# Altium footprint library con-ml.PCBLIB: 41 footprints (part 2 of 3)
Each footprint in its own frame and in the unit in brackets; x right, y up, seen from the top. Pads: shape width x height; smd on the part's side, far side on the other; paste and mask are expansions set on the pad; w line width, h text height; cw(c..) or ccw(c..) is an arc to the next point about the centre after c.
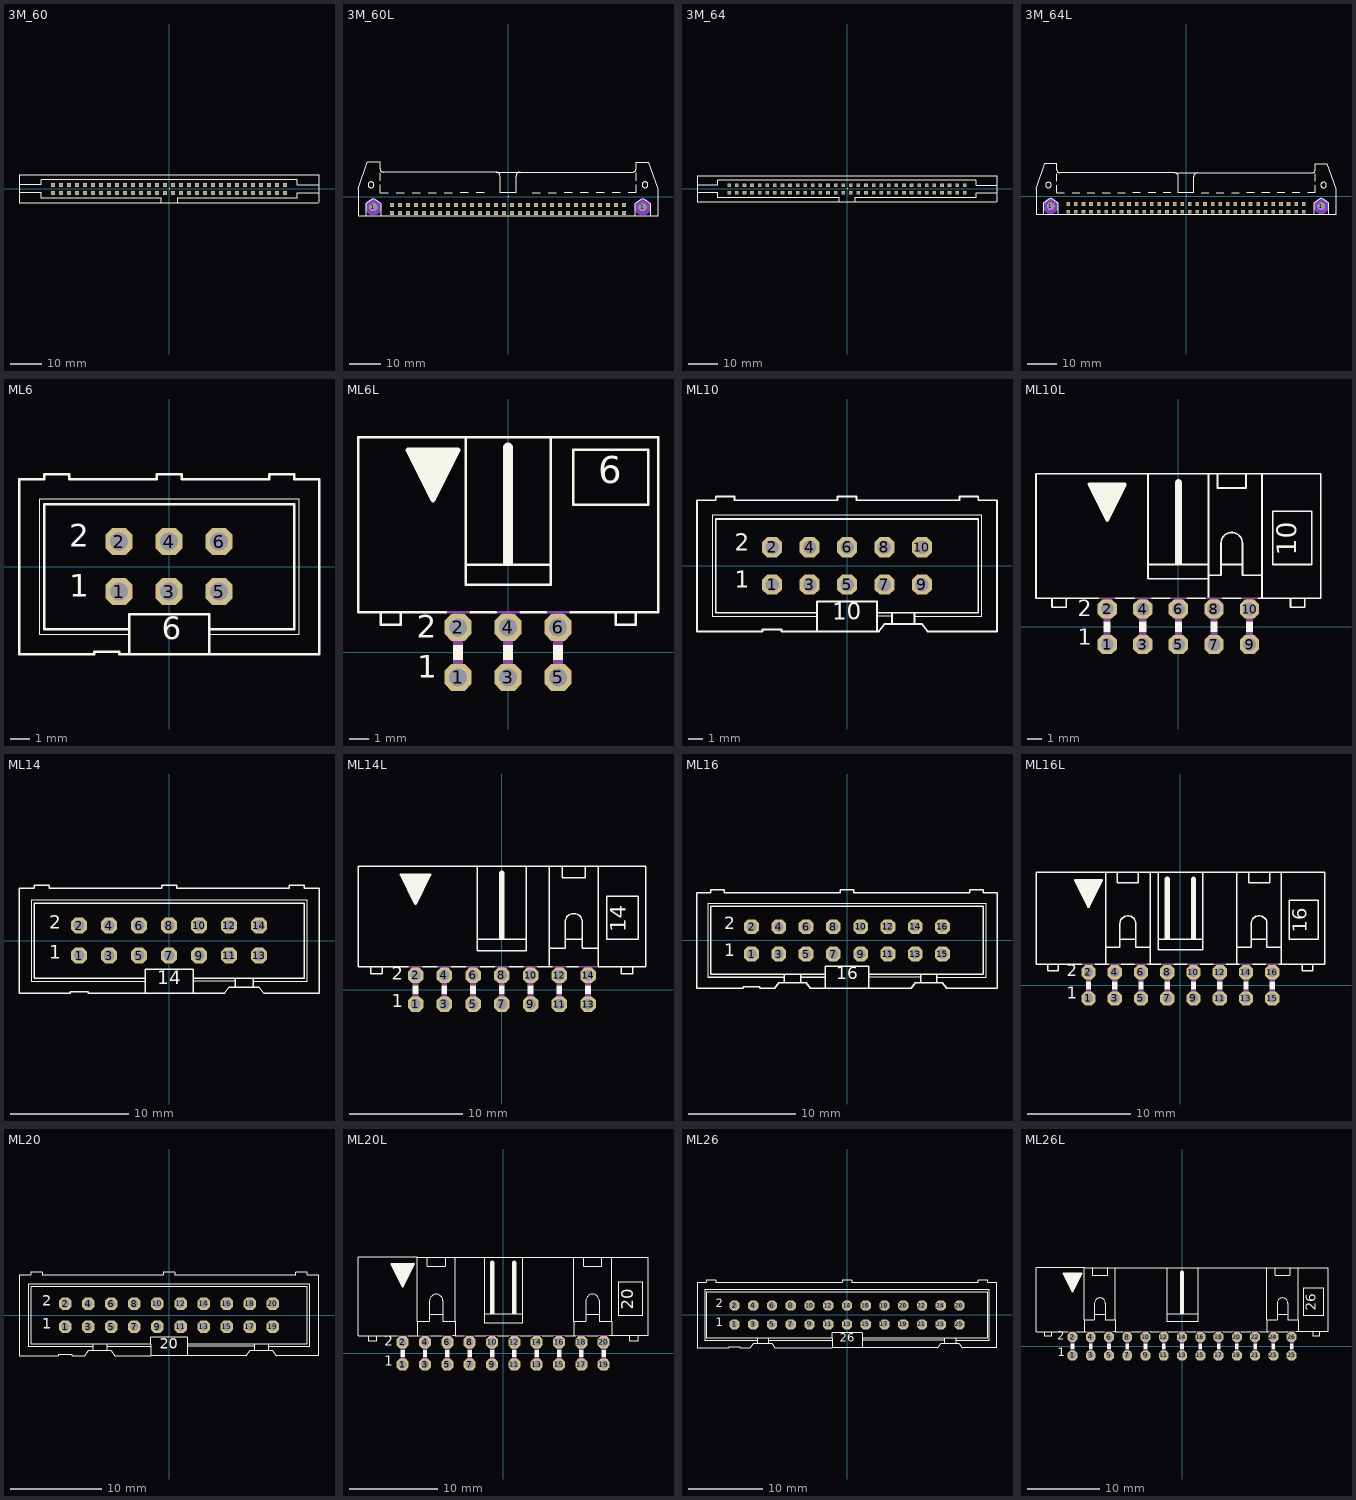
[diagram p1: the footprints below, top view; thin cyan lines are the x and y axes]

## 3M_60 [mil]
pads (60):
  rect 48x48 hole 32: 1(-1450,-50) 2(-1450,50) 3(-1350,-50) 4(-1350,50) 5(-1250,-50) 6(-1250,50) 7(-1150,-50) 8(-1150,50) 9(-1050,-50) 10(-1050,50) 11(-950,-50) 12(-950,50) 13(-850,-50) 14(-850,50) 15(-750,-50) 16(-750,50) 17(-650,-50) 18(-650,50) 19(-550,-50) 20(-550,50) 21(-450,-50) 22(-450,50) 23(-350,-50) 24(-350,50) 25(-250,-50) 26(-250,50) 27(-150,-50) 28(-150,50) 29(-50,-50) 30(-50,50) 31(50,-50) 32(50,50) 33(150,-50) 34(150,50) 35(250,-50) 36(250,50) 37(350,-50) 38(350,50) 39(450,-50) 40(450,50) 41(550,-50) 42(550,50) 43(650,-50) 44(650,50) 45(750,-50) 46(750,50) 47(850,-50) 48(850,50) 49(950,-50) 50(950,50) 51(1050,-50) 52(1050,50) 53(1150,-50) 54(1150,50) 55(1250,-50) 56(1250,50) 57(1350,-50) 58(1350,50) 59(1450,-50) 60(1450,50)
Top Overlay:
  region: 0,0 10,0 10,10 0,10
  lines w12: -1875,-169.29 -100,-169.29 -100,-120 ; -1875,-167 -1875,169.29 1875,169.29 1875,-167 ; -1870,-50 -1600,-50 -1600,-118.11 -100,-118.11 ; -1870,50 -1600,50 -1600,118.11 1595,118.11 ; -100,-170 100,-170 ; 100,-120 100,-169.29 1865,-169.29 ; 100,-118.11 1600,-118.11 1600,-50 1870,-50 ; 1600,118.11 1600,50 1870,50

## 3M_60L [mil]
pads (62):
  round 100 hole 100: 1(-1683,-129) 1(1683,-129)
  rect 48x48 hole 32: 1(-1450,-200) 2(-1450,-100) 3(-1350,-200) 4(-1350,-100) 5(-1250,-200) 6(-1250,-100) 7(-1150,-200) 8(-1150,-100) 9(-1050,-200) 10(-1050,-100) 11(-950,-200) 12(-950,-100) 13(-850,-200) 14(-850,-100) 15(-750,-200) 16(-750,-100) 17(-650,-200) 18(-650,-100) 19(-550,-200) 20(-550,-100) 21(-450,-200) 22(-450,-100) 23(-350,-200) 24(-350,-100) 25(-250,-200) 26(-250,-100) 27(-150,-200) 28(-150,-100) 29(-50,-200) 30(-50,-100) 31(50,-200) 32(50,-100) 33(150,-200) 34(150,-100) 35(250,-200) 36(250,-100) 37(350,-200) 38(350,-100) 39(450,-200) 40(450,-100) 41(550,-200) 42(550,-100) 43(650,-200) 44(650,-100) 45(750,-200) 46(750,-100) 47(850,-200) 48(850,-100) 49(950,-200) 50(950,-100) 51(1050,-200) 52(1050,-100) 53(1150,-200) 54(1150,-100) 55(1250,-200) 56(1250,-100) 57(1350,-200) 58(1350,-100) 59(1450,-200) 60(1450,-100)
Bottom Layer keep-out:
  circle w50: c-1683,-129 r76
  circle w50: c1683,-129 r76
Top Overlay:
  circle w5: c-1712,150 r37
  circle w5: c1712,150 r37
  region: 0,0 10,0 10,10 0,10
  lines w5: -1600,150 -1600,50 -1500,50 ; -1600,200 -1600,300 ; -1400,50 -1300,50 ; -1200,50 -1100,50 ; -1000,50 -900,50 ; -800,50 -700,50 ; -600,50 -500,50 ; -400,50 -300,50 ; 300,50 400,50 ; 500,50 600,50 ; 700,50 800,50 ; 900,50 1000,50 ; 1100,50 1200,50 ; 1300,50 1400,50 ; 1500,50 1600,50 1600,150 ; 1600,200 1600,300
  lines w12: -100,260 ccw(c-150,260) -150,310 ; -100,263 -100,50 100,50 100,263 ; 100,260 cw(c150,260) 150,310 ; -1775,-237 -1875,-237 -1875,100 -1762,433 -1600,433 -1600,350 ccw(c-1560,350) -1560,310 -150,310 ; -1775,-237 -1775,-80 -1683,-18 -1591,-80 -1591,-237 ; -1775,-237 -1591,-237 ; -1591,-237 1591,-237 ; -150,310 1560,310 ccw(c1560,350) 1600,350 1600,433 1762,433 1875,100 1875,-237 1775,-237 ; 1591,-237 1591,-81 1683,-18 1775,-81 1775,-237 ; 1591,-237 1775,-237

## 3M_64 [mil]
pads (64):
  rect 48x48 hole 32: 1(-1550,-50) 2(-1550,50) 3(-1450,-50) 4(-1450,50) 5(-1350,-50) 6(-1350,50) 7(-1250,-50) 8(-1250,50) 9(-1150,-50) 10(-1150,50) 11(-1050,-50) 12(-1050,50) 13(-950,-50) 14(-950,50) 15(-850,-50) 16(-850,50) 17(-750,-50) 18(-750,50) 19(-650,-50) 20(-650,50) 21(-550,-50) 22(-550,50) 23(-450,-50) 24(-450,50) 25(-350,-50) 26(-350,50) 27(-250,-50) 28(-250,50) 29(-150,-50) 30(-150,50) 31(-50,-50) 32(-50,50) 33(50,-50) 34(50,50) 35(150,-50) 36(150,50) 37(250,-50) 38(250,50) 39(350,-50) 40(350,50) 41(450,-50) 42(450,50) 43(550,-50) 44(550,50) 45(650,-50) 46(650,50) 47(750,-50) 48(750,50) 49(850,-50) 50(850,50) 51(950,-50) 52(950,50) 53(1050,-50) 54(1050,50) 55(1150,-50) 56(1150,50) 57(1250,-50) 58(1250,50) 59(1350,-50) 60(1350,50) 61(1450,-50) 62(1450,50) 63(1550,-50) 64(1550,50)
Top Overlay:
  region: 0,0 10,0 10,10 0,10
  lines w12: -1975,-169.29 -100,-169.29 -100,-120 ; -1975,-167 -1975,169.29 1975,169.29 1975,-167 ; -1970,-50 -1700,-50 -1700,-118.11 -100,-118.11 ; -1970,50 -1700,50 -1700,118.11 1695,118.11 ; -100,-170 100,-170 ; 100,-120 100,-169.29 1965,-169.29 ; 100,-118.11 1700,-118.11 1700,-50 1970,-50 ; 1700,118.11 1700,50 1970,50

## 3M_64L [mil]
pads (66):
  round 100 hole 100: 1(-1783,-129) 1(1783,-129)
  rect 48x48 hole 32: 1(-1550,-200) 2(-1550,-100) 3(-1450,-200) 4(-1450,-100) 5(-1350,-200) 6(-1350,-100) 7(-1250,-200) 8(-1250,-100) 9(-1150,-200) 10(-1150,-100) 11(-1050,-200) 12(-1050,-100) 13(-950,-200) 14(-950,-100) 15(-850,-200) 16(-850,-100) 17(-750,-200) 18(-750,-100) 19(-650,-200) 20(-650,-100) 21(-550,-200) 22(-550,-100) 23(-450,-200) 24(-450,-100) 25(-350,-200) 26(-350,-100) 27(-250,-200) 28(-250,-100) 29(-150,-200) 30(-150,-100) 31(-50,-200) 32(-50,-100) 33(50,-200) 34(50,-100) 35(150,-200) 36(150,-100) 37(250,-200) 38(250,-100) 39(350,-200) 40(350,-100) 41(450,-200) 42(450,-100) 43(550,-200) 44(550,-100) 45(650,-200) 46(650,-100) 47(750,-200) 48(750,-100) 49(850,-200) 50(850,-100) 51(950,-200) 52(950,-100) 53(1050,-200) 54(1050,-100) 55(1150,-200) 56(1150,-100) 57(1250,-200) 58(1250,-100) 59(1350,-200) 60(1350,-100) 61(1450,-200) 62(1450,-100) 63(1550,-200) 64(1550,-100)
Bottom Layer keep-out:
  circle w50: c-1783,-129 r76
  circle w50: c1783,-129 r76
Top Overlay:
  circle w5: c-1812,150 r37
  circle w5: c1812,150 r37
  region: 0,0 10,0 10,10 0,10
  lines w5: -1700,150 -1700,50 -1600,50 ; -1700,200 -1700,300 ; -1500,50 -1400,50 ; -1300,50 -1200,50 ; -1100,50 -1000,50 ; -900,50 -800,50 ; -700,50 -600,50 ; -500,50 -400,50 ; -300,50 -200,50 ; 200,50 300,50 ; 400,50 500,50 ; 600,50 700,50 ; 800,50 900,50 ; 1000,50 1100,50 ; 1200,50 1300,50 ; 1400,50 1500,50 ; 1600,50 1700,50 1700,150 ; 1700,200 1700,300
  lines w12: -100,260 ccw(c-150,260) -150,310 ; -100,263 -100,50 100,50 100,263 ; 100,260 cw(c150,260) 150,310 ; -1875,-237 -1975,-237 -1975,100 -1862,433 -1700,433 -1700,350 ccw(c-1660,350) -1660,310 -150,310 ; -1875,-237 -1875,-80 -1783,-18 -1691,-80 -1691,-237 ; -1875,-237 -1691,-237 ; -1691,-237 1691,-237 ; -150,310 1660,310 ccw(c1660,350) 1700,350 1700,433 1862,433 1975,100 1975,-237 1875,-237 ; 1691,-237 1691,-81 1783,-18 1875,-81 1875,-237 ; 1691,-237 1875,-237

## ML6 [mil]
pads (6):
  oct 54x54 hole 36: 1(-100,-50) 2(-100,50) 3(0,-50) 4(0,50) 5(100,-50) 6(100,50)
Top Overlay:
  lines w2: -80,-135 -260,-135 -260,135 260,135 260,-135 80,-135
  lines w5: -80,-175 80,-175 ; -80,-175 -80,-135 -80,-125 ; -80,-175 -100,-175 -100,-170 -150,-170 -150,-175 -300,-175 -300,175 -250,175 -250,185 -200,185 -200,175 -25,175 -25,185 25,185 25,175 200,175 200,185 250,185 250,175 300,175 300,-175 80,-175 ; -80,-125 -80,-95 80,-95 80,-125 ; -80,-125 -250,-125 -250,125 250,125 250,-125 80,-125 ; 80,-175 80,-135 80,-125
  text "1" at -200,-75 h77.5
  text "2" at -200,25 h77.5
  text "6" at -15,-160 h77.5
Mechanical 16:
  rectangle: -10,40 10,60
  rectangle: -110,40 -90,60
  rectangle: 90,40 110,60
  rectangle: -10,-60 10,-40
  rectangle: -110,-60 -90,-40
  rectangle: 90,-60 110,-40

## ML6L [mil]
pads (6):
  oct 54x54 hole 36: 1(-100,-50) 2(-100,50) 3(0,-50) 4(0,50) 5(100,-50) 6(100,50)
Top Overlay:
  rectangle: -10,175 10,405
  rectangle: -195,385 -105,405
  rectangle: -185,365 -115,385
  rectangle: -175,345 -125,365
  rectangle: -165,325 -135,345
  rectangle: -155,315 -145,325
  rectangle: -110,-15 -90,15
  rectangle: -10,-15 10,15
  rectangle: 90,-15 110,15
  lines w5: -125,80 -215,80 ; -75,80 -25,80 ; 25,80 75,80 ; 125,80 215,80 ; -255,80 -300,80 -300,430 -85,430 ; -255,80 -255,55 -215,55 -215,80 ; -255,80 -215,80 ; -85,175 -85,430 ; -85,175 85,175 ; -85,175 -85,135 85,135 85,175 ; -85,430 85,430 ; 85,175 85,430 ; 85,430 300,430 300,80 255,80 ; 215,80 215,55 255,55 255,80 ; 215,80 255,80 ; 130,295 130,405 280,405 280,295 130,295
  lines w10: -200,405 -100,405 -150,305 -200,405
  lines w20: 0,400 0,410
  text "1" at -182,-66 h77.5
  text "2" at -183,14 h77.5
  text "6" at 180,320 h93
Mechanical 16:
  rectangle: -110,15 -90,80
  rectangle: -110,-60 -90,-15
  rectangle: -10,15 10,80
  rectangle: -10,-60 10,-15
  rectangle: 90,15 110,80
  rectangle: 90,-60 110,-15
  lines w5: -125,80 -75,80 ; -25,80 25,80 ; 75,80 125,80

## ML10 [mil]
pads (10):
  oct 54x54 hole 36: 1(-200,-50) 2(-200,50) 3(-100,-50) 4(-100,50) 5(0,-50) 6(0,50) 7(100,-50) 8(100,50) 9(200,-50) 10(200,50)
Top Overlay:
  lines w2: -80,-135 -360,-135 -360,135 360,135 360,-135 180,-135 ; 80,-135 120,-135
  lines w5: -80,-175 80,-175 ; -80,-175 -80,-135 -80,-125 ; -80,-175 -175,-175 -175,-170 -225,-170 -225,-175 -400,-175 -400,175 -350,175 -350,185 -300,185 -300,175 -25,175 -25,185 25,185 25,175 300,175 300,185 350,185 350,175 400,175 400,-175 215,-175 200,-155 180,-155 ; -80,-125 -80,-95 80,-95 80,-125 ; -80,-125 -350,-125 -350,125 350,125 350,-125 180,-125 ; 80,-175 85,-175 100,-155 120,-155 ; 80,-175 80,-135 80,-125 ; 80,-125 120,-125 ; 120,-155 120,-135 120,-125 ; 120,-155 180,-155 ; 120,-125 180,-125 ; 180,-155 180,-135 180,-125
  text "10" at -40,-160 h77.5
  text "1" at -300,-75 h77.5
  text "2" at -300,25 h77.5
Mechanical 16:
  rectangle: -110,40 -90,60
  rectangle: -210,40 -190,60
  rectangle: -10,40 10,60
  rectangle: 190,40 210,60
  rectangle: 90,40 110,60
  rectangle: -110,-60 -90,-40
  rectangle: -210,-60 -190,-40
  rectangle: -10,-60 10,-40
  rectangle: 190,-60 210,-40
  rectangle: 90,-60 110,-40

## ML10L [mil]
pads (10):
  oct 54x54 hole 36: 1(-200,-50) 2(-200,50) 3(-100,-50) 4(-100,50) 5(0,-50) 6(0,50) 7(100,-50) 8(100,50) 9(200,-50) 10(200,50)
Top Overlay:
  rectangle: -10,175 10,405
  rectangle: -245,380 -155,400
  rectangle: -235,360 -165,380
  rectangle: -225,340 -175,360
  rectangle: -215,320 -185,340
  rectangle: -205,310 -195,320
  rectangle: -210,-15 -190,15
  rectangle: -110,-15 -90,15
  rectangle: -10,-15 10,15
  rectangle: 90,-15 110,15
  rectangle: 190,-15 210,15
  lines w5: -225,80 -315,80 ; -175,80 -125,80 ; -75,80 -25,80 ; 25,80 75,80 ; 85,85 85,135 ; 110,430 110,390 190,390 190,430 ; 125,80 175,80 ; 225,80 235,80 ; 235,430 235,145 ; -355,80 -400,80 -400,430 -85,430 ; -355,80 -355,55 -315,55 -315,80 ; -355,80 -315,80 ; -85,175 -85,430 ; -85,175 85,175 ; -85,175 -85,135 85,135 ; -85,430 85,430 ; 85,135 85,145 ; 85,145 120,145 120,175 ; 85,145 85,175 ; 85,175 85,430 ; 85,430 400,430 400,80 355,80 ; 120,175 120,235 cw(c150,235) 180,235 180,175 ; 120,175 180,175 ; 180,175 180,145 235,145 ; 235,80 235,145 ; 235,80 315,80 ; 315,80 315,55 355,55 355,80 ; 315,80 355,80 ; 265,175 375,175 375,325 265,325 265,175
  lines w10: -250,400 -150,400 -200,300 -250,400
  lines w20: 0,395 0,405
  text "1" at -282,-66 h77.5
  text "2" at -283,14 h77.5
  text "10" at 350,200 h93
Mechanical 16:
  rectangle: -210,15 -190,80
  rectangle: -210,-60 -190,-15
  rectangle: -110,15 -90,80
  rectangle: -110,-60 -90,-15
  rectangle: -10,15 10,80
  rectangle: -10,-60 10,-15
  rectangle: 90,15 110,80
  rectangle: 90,-60 110,-15
  rectangle: 190,15 210,80
  rectangle: 190,-60 210,-15
  lines w5: -225,80 -175,80 ; -125,80 -75,80 ; -25,80 25,80 ; 75,80 85,80 ; 85,85 85,80 ; 125,80 85,80 ; 175,80 225,80

## ML14 [mil]
pads (14):
  oct 54x54 hole 36: 1(-300,-50) 2(-300,50) 3(-200,-50) 4(-200,50) 5(-100,-50) 6(-100,50) 7(0,-50) 8(0,50) 9(100,-50) 10(100,50) 11(200,-50) 12(200,50) 13(300,-50) 14(300,50)
Top Overlay:
  lines w2: -80,-135 -460,-135 -460,135 460,135 460,-135 280,-135 ; 80,-135 220,-135
  lines w5: -80,-175 80,-175 ; -80,-175 -80,-135 -80,-125 ; -80,-175 -270,-175 -270,-170 -330,-170 -330,-175 -500,-175 -500,175 -450,175 -450,185 -400,185 -400,175 -25,175 -25,185 25,185 25,175 400,175 400,185 450,185 450,175 500,175 500,-175 315,-175 300,-155 280,-155 ; -80,-125 -80,-95 80,-95 80,-125 ; -80,-125 -450,-125 -450,125 450,125 450,-125 280,-125 ; 80,-175 185,-175 200,-155 220,-155 ; 80,-175 80,-135 80,-125 ; 80,-125 220,-125 ; 220,-155 220,-135 220,-125 ; 220,-155 280,-155 ; 220,-125 280,-125 ; 280,-155 280,-135 280,-125
  text "14" at -40,-160 h77.5
  text "1" at -400,-75 h77.5
  text "2" at -400,25 h77.5
Mechanical 16:
  rectangle: 290,40 310,60
  rectangle: 190,40 210,60
  rectangle: 190,-60 210,-40
  rectangle: 290,-60 310,-40
  rectangle: -210,40 -190,60
  rectangle: -310,40 -290,60
  rectangle: -110,40 -90,60
  rectangle: 90,40 110,60
  rectangle: -10,40 10,60
  rectangle: -210,-60 -190,-40
  rectangle: -310,-60 -290,-40
  rectangle: -110,-60 -90,-40
  rectangle: 90,-60 110,-40
  rectangle: -10,-60 10,-40

## ML14L [mil]
pads (14):
  oct 54x54 hole 36: 1(-300,-50) 2(-300,50) 3(-200,-50) 4(-200,50) 5(-100,-50) 6(-100,50) 7(0,-50) 8(0,50) 9(100,-50) 10(100,50) 11(200,-50) 12(200,50) 13(300,-50) 14(300,50)
Top Overlay:
  rectangle: -10,175 10,405
  rectangle: -345,380 -255,400
  rectangle: -335,360 -265,380
  rectangle: -325,340 -275,360
  rectangle: -315,320 -285,340
  rectangle: -305,310 -295,320
  rectangle: -310,-15 -290,15
  rectangle: -210,-15 -190,15
  rectangle: -110,-15 -90,15
  rectangle: -10,-15 10,15
  rectangle: 90,-15 110,15
  rectangle: 190,-15 210,15
  rectangle: 290,-15 310,15
  lines w5: -325,80 -415,80 ; -275,80 -225,80 ; -175,80 -125,80 ; -75,80 -25,80 ; 25,80 75,80 ; 125,80 165,80 ; 175,80 165,80 ; 210,430 210,390 290,390 290,430 ; 225,80 265,80 ; 335,430 335,145 ; -455,80 -500,80 -500,430 -85,430 ; -455,80 -415,80 ; -455,80 -455,55 -415,55 -415,80 ; -85,175 -85,430 ; -85,175 85,175 ; -85,175 -85,135 85,135 85,175 ; -85,430 85,430 ; 85,175 85,430 ; 85,430 165,430 ; 165,80 165,145 ; 165,145 220,145 220,175 ; 165,145 165,430 ; 165,430 500,430 500,80 455,80 ; 220,175 220,235 cw(c250,235) 280,235 280,175 ; 220,175 280,175 ; 280,175 280,145 335,145 ; 335,145 335,80 415,80 ; 415,80 455,80 ; 415,80 415,55 455,55 455,80 ; 365,175 475,175 475,325 365,325 365,175
  lines w10: -350,400 -250,400 -300,300 -350,400
  lines w20: 0,395 0,405
  text "1" at -382,-76 h77.5
  text "2" at -383,19 h77.5
  text "14" at 450,200 h93
Mechanical 16:
  rectangle: -310,15 -290,80
  rectangle: -310,-60 -290,-15
  rectangle: -210,15 -190,80
  rectangle: -210,-60 -190,-15
  rectangle: -110,15 -90,80
  rectangle: -110,-60 -90,-15
  rectangle: -10,15 10,80
  rectangle: -10,-60 10,-15
  rectangle: 90,15 110,80
  rectangle: 90,-60 110,-15
  rectangle: 190,15 210,80
  rectangle: 190,-60 210,-15
  rectangle: 290,15 310,80
  rectangle: 290,-60 310,-15
  lines w5: -325,80 -275,80 ; -225,80 -175,80 ; -125,80 -75,80 ; -25,80 25,80 ; 75,80 125,80 ; 175,80 225,80 ; 265,80 335,80

## ML16 [mil]
pads (16):
  oct 54x54 hole 36: 1(-350,-50) 2(-350,50) 3(-250,-50) 4(-250,50) 5(-150,-50) 6(-150,50) 7(-50,-50) 8(-50,50) 9(50,-50) 10(50,50) 11(150,-50) 12(150,50) 13(250,-50) 14(250,50) 15(350,-50) 16(350,50)
Top Overlay:
  lines w2: -510,-135 -510,135 510,135 510,-135 330,-135 ; 80,-135 270,-135
  lines w5: -510,-135 -230,-135 ; -230,-155 -230,-135 ; -230,-155 -170,-155 ; -230,-155 -250,-155 -265,-175 -320,-175 -320,-170 -380,-170 -380,-175 -550,-175 -550,175 -500,175 -500,185 -450,185 -450,175 -25,175 -25,185 25,185 25,175 450,175 450,185 500,185 500,175 550,175 550,-175 365,-175 350,-155 330,-155 ; -230,-135 -230,-125 ; -230,-125 -500,-125 -500,125 500,125 500,-125 330,-125 ; -230,-125 -170,-125 ; -170,-155 -170,-135 ; -170,-155 -150,-155 -135,-175 -80,-175 ; -170,-135 -80,-135 ; -170,-135 -170,-125 ; -170,-125 -80,-125 ; -80,-175 80,-175 ; -80,-175 -80,-135 ; -80,-135 -80,-125 ; -80,-125 -80,-95 80,-95 80,-125 ; 80,-175 235,-175 250,-155 270,-155 ; 80,-175 80,-135 80,-125 ; 80,-125 270,-125 ; 270,-155 270,-135 270,-125 ; 270,-155 330,-155 ; 270,-125 330,-125 ; 330,-155 330,-135 330,-125
  text "16" at -40,-160 h77.5
  text "1" at -450,-75 h77.5
  text "2" at -450,25 h77.5
Mechanical 16:
  rectangle: 340,40 360,60
  rectangle: 340,-60 360,-40
  rectangle: 240,40 260,60
  rectangle: 140,40 160,60
  rectangle: 140,-60 160,-40
  rectangle: 240,-60 260,-40
  rectangle: -260,40 -240,60
  rectangle: -360,40 -340,60
  rectangle: -160,40 -140,60
  rectangle: 40,40 60,60
  rectangle: -60,40 -40,60
  rectangle: -260,-60 -240,-40
  rectangle: -360,-60 -340,-40
  rectangle: -160,-60 -140,-40
  rectangle: 40,-60 60,-40
  rectangle: -60,-60 -40,-40

## ML16L [mil]
pads (16):
  oct 54x54 hole 36: 1(-350,-50) 2(-350,50) 3(-250,-50) 4(-250,50) 5(-150,-50) 6(-150,50) 7(-50,-50) 8(-50,50) 9(50,-50) 10(50,50) 11(150,-50) 12(150,50) 13(250,-50) 14(250,50) 15(350,-50) 16(350,50)
Top Overlay:
  rectangle: 40,175 60,405
  rectangle: -395,380 -305,400
  rectangle: -385,360 -315,380
  rectangle: -375,340 -325,360
  rectangle: -365,320 -335,340
  rectangle: -355,310 -345,320
  rectangle: -60,175 -40,405
  rectangle: -360,-15 -340,15
  rectangle: -260,-15 -240,15
  rectangle: -160,-15 -140,15
  rectangle: -60,-15 -40,15
  rectangle: 40,-15 60,15
  rectangle: 140,-15 160,15
  rectangle: 240,-15 260,15
  rectangle: 340,-15 360,15
  lines w5: -375,80 -465,80 ; -325,80 -285,80 ; -275,80 -285,80 ; -225,80 -175,80 ; -125,80 -115,80 ; -75,80 -115,80 ; -25,80 25,80 ; 75,80 125,80 ; 175,80 215,80 ; 225,80 215,80 ; 260,430 260,390 340,390 340,430 ; 275,80 325,80 ; 375,80 385,80 ; 385,430 385,145 ; -505,80 -550,80 -550,430 -285,430 ; -505,80 -465,80 ; -505,80 -505,55 -465,55 -465,80 ; -285,80 -285,145 ; -285,145 -285,430 ; -285,145 -230,145 -230,175 ; -285,430 -240,430 ; -240,430 -240,390 -160,390 -160,430 ; -240,430 -160,430 ; -230,175 -170,175 ; -230,175 -230,235 cw(c-200,235) -170,235 -170,175 ; -170,175 -170,145 -115,145 ; -160,430 -115,430 ; -115,80 -115,145 ; -115,145 -115,430 ; -115,430 -85,430 ; -85,175 -85,430 ; -85,175 85,175 ; -85,175 -85,135 85,135 85,175 ; -85,430 85,430 ; 85,175 85,430 ; 85,430 215,430 ; 215,80 215,145 ; 215,145 270,145 270,175 ; 215,145 215,430 ; 215,430 550,430 550,80 505,80 ; 270,175 270,235 cw(c300,235) 330,235 330,175 ; 270,175 330,175 ; 330,175 330,145 385,145 ; 385,80 385,145 ; 385,80 465,80 ; 465,80 505,80 ; 465,80 465,55 505,55 505,80 ; 415,175 525,175 525,325 415,325 415,175
  lines w10: -400,400 -300,400 -350,300 -400,400
  lines w20: -50,395 -50,405 ; 50,395 50,405
  text "1" at -432,-66 h77.5
  text "2" at -433,19 h77.5
  text "16" at 500,200 h93
Mechanical 16:
  rectangle: -360,15 -340,80
  rectangle: -360,-60 -340,-15
  rectangle: -260,15 -240,80
  rectangle: -260,-60 -240,-15
  rectangle: -160,15 -140,80
  rectangle: -160,-60 -140,-15
  rectangle: -60,15 -40,80
  rectangle: -60,-60 -40,-15
  rectangle: 40,15 60,80
  rectangle: 40,-60 60,-15
  rectangle: 140,15 160,80
  rectangle: 140,-60 160,-15
  rectangle: 240,15 260,80
  rectangle: 240,-60 260,-15
  rectangle: 340,15 360,80
  rectangle: 340,-60 360,-15
  lines w5: -375,80 -325,80 ; -275,80 -225,80 ; -175,80 -125,80 ; -75,80 -25,80 ; 25,80 75,80 ; 125,80 175,80 ; 225,80 275,80 ; 325,80 375,80

## ML20 [mil]
pads (20):
  oct 54x54 hole 36: 1(-450,-50) 2(-450,50) 3(-350,-50) 4(-350,50) 5(-250,-50) 6(-250,50) 7(-150,-50) 8(-150,50) 9(-50,-50) 10(-50,50) 11(50,-50) 12(50,50) 13(150,-50) 14(150,50) 15(250,-50) 16(250,50) 17(350,-50) 18(350,50) 19(450,-50) 20(450,50)
Top Overlay:
  lines w2: -330,-135 -610,-135 -610,135 610,135 610,-135 430,-135 ; -270,-135 -80,-135 ; 80,-135 370,-135
  lines w5: -330,-155 -330,-135 -330,-125 ; -330,-155 -270,-155 ; -330,-155 -350,-155 -365,-175 -420,-175 -420,-170 -480,-170 -480,-175 -650,-175 -650,175 -600,175 -600,185 -550,185 -550,175 -25,175 -25,185 25,185 25,175 550,175 550,185 600,185 600,175 650,175 650,-175 465,-175 450,-155 430,-155 ; -330,-125 -600,-125 -600,125 600,125 600,-125 430,-125 ; -330,-125 -270,-125 ; -270,-155 -270,-135 -270,-125 ; -270,-155 -250,-155 -235,-175 -80,-175 ; -270,-125 -80,-125 ; -80,-175 80,-175 ; -80,-175 -80,-135 -80,-125 ; -80,-125 -80,-95 80,-95 80,-125 ; 80,-175 335,-175 350,-155 370,-155 ; 80,-175 80,-135 80,-125 ; 80,-125 370,-125 ; 370,-155 370,-135 370,-125 ; 370,-155 430,-155 ; 370,-125 430,-125 ; 430,-155 430,-135 430,-125
  text "1" at -550,-75 h77.5
  text "2" at -550,25 h77.5
  text "20" at -40,-160 h77.5
Mechanical 16:
  rectangle: 440,40 460,60
  rectangle: 440,-60 460,-40
  rectangle: 340,40 360,60
  rectangle: 140,40 160,60
  rectangle: 140,-60 160,-40
  rectangle: 340,-60 360,-40
  rectangle: -360,40 -340,60
  rectangle: -460,40 -440,60
  rectangle: -260,40 -240,60
  rectangle: 40,40 60,60
  rectangle: -60,40 -40,60
  rectangle: -360,-60 -340,-40
  rectangle: -460,-60 -440,-40
  rectangle: -260,-60 -240,-40
  rectangle: 40,-60 60,-40
  rectangle: -60,-60 -40,-40
  rectangle: -160,-60 -140,-40
  rectangle: -160,40 -140,60
  rectangle: 240,40 260,60
  rectangle: 240,-60 260,-40

## ML20L [mil]
pads (20):
  oct 54x54 hole 36: 1(-450,-50) 2(-450,50) 3(-350,-50) 4(-350,50) 5(-250,-50) 6(-250,50) 7(-150,-50) 8(-150,50) 9(-50,-50) 10(-50,50) 11(50,-50) 12(50,50) 13(150,-50) 14(150,50) 15(250,-50) 16(250,50) 17(350,-50) 18(350,50) 19(450,-50) 20(450,50)
Top Overlay:
  rectangle: 40,175 60,405
  rectangle: -495,380 -405,400
  rectangle: -485,360 -415,380
  rectangle: -475,340 -425,360
  rectangle: -465,320 -435,340
  rectangle: -455,310 -445,320
  rectangle: -60,175 -40,405
  rectangle: -460,-15 -440,15
  rectangle: -360,-15 -340,15
  rectangle: -260,-15 -240,15
  rectangle: -160,-15 -140,15
  rectangle: -60,-15 -40,15
  rectangle: 40,-15 60,15
  rectangle: 140,-15 160,15
  rectangle: 240,-15 260,15
  rectangle: 340,-15 360,15
  rectangle: 440,-15 460,15
  lines w5: -475,80 -565,80 ; -425,80 -385,80 ; -375,80 -385,80 ; -325,80 -275,80 ; -225,80 -215,80 ; -175,80 -215,80 ; -125,80 -75,80 ; -25,80 25,80 ; 75,80 125,80 ; 175,80 225,80 ; 275,80 315,80 ; 325,80 315,80 ; 360,430 360,390 440,390 440,430 ; 375,80 425,80 ; 475,80 485,80 ; 485,430 485,145 ; -605,80 -650,80 -650,430 -385,430 ; -605,80 -565,80 ; -605,80 -605,55 -565,55 -565,80 ; -385,80 -385,145 ; -385,145 -385,430 ; -385,145 -330,145 -330,175 ; -385,430 -340,430 ; -340,430 -340,390 -260,390 -260,430 ; -340,430 -260,430 ; -330,175 -270,175 ; -330,175 -330,235 cw(c-300,235) -270,235 -270,175 ; -270,175 -270,145 -215,145 ; -260,430 -215,430 ; -215,80 -215,145 ; -215,145 -215,430 ; -215,430 -85,430 ; -85,175 -85,430 ; -85,175 85,175 ; -85,175 -85,135 85,135 85,175 ; -85,430 85,430 ; 85,175 85,430 ; 85,430 315,430 ; 315,80 315,145 ; 315,145 370,145 370,175 ; 315,145 315,430 ; 315,430 650,430 650,80 605,80 ; 370,175 370,235 cw(c400,235) 430,235 430,175 ; 370,175 430,175 ; 430,175 430,145 485,145 ; 485,80 485,145 ; 485,80 565,80 ; 565,80 605,80 ; 565,80 565,55 605,55 605,80 ; 515,170 625,170 625,320 515,320 515,170
  lines w10: -500,400 -400,400 -450,300 -500,400
  lines w20: -50,395 -50,405 ; 50,395 50,405
  text "1" at -532,-71 h77.5
  text "2" at -533,19 h77.5
  text "20" at 600,195 h93
Mechanical 16:
  rectangle: -460,15 -440,80
  rectangle: -460,-60 -440,-15
  rectangle: -360,15 -340,80
  rectangle: -360,-60 -340,-15
  rectangle: -260,15 -240,80
  rectangle: -260,-60 -240,-15
  rectangle: -160,15 -140,80
  rectangle: -160,-60 -140,-15
  rectangle: -60,15 -40,80
  rectangle: -60,-60 -40,-15
  rectangle: 40,15 60,80
  rectangle: 40,-60 60,-15
  rectangle: 140,15 160,80
  rectangle: 140,-60 160,-15
  rectangle: 240,15 260,80
  rectangle: 240,-60 260,-15
  rectangle: 340,15 360,80
  rectangle: 340,-60 360,-15
  rectangle: 440,15 460,80
  rectangle: 440,-60 460,-15
  lines w5: -475,80 -425,80 ; -375,80 -325,80 ; -275,80 -225,80 ; -175,80 -125,80 ; -75,80 -25,80 ; 25,80 75,80 ; 125,80 175,80 ; 225,80 275,80 ; 325,80 375,80 ; 425,80 475,80

## ML26 [mil]
pads (26):
  oct 54x54 hole 36: 1(-600,-50) 2(-600,50) 3(-500,-50) 4(-500,50) 5(-400,-50) 6(-400,50) 7(-300,-50) 8(-300,50) 9(-200,-50) 10(-200,50) 11(-100,-50) 12(-100,50) 13(0,-50) 14(0,50) 15(100,-50) 16(100,50) 17(200,-50) 18(200,50) 19(300,-50) 20(300,50) 21(400,-50) 22(400,50) 23(500,-50) 24(500,50) 25(600,-50) 26(600,50)
Top Overlay:
  lines w2: -480,-135 -760,-135 -760,135 760,135 760,-135 580,-135 ; -420,-135 -80,-135 ; 80,-135 520,-135
  lines w5: -480,-155 -480,-135 -480,-125 ; -480,-155 -420,-155 ; -480,-155 -500,-155 -515,-175 -570,-175 -570,-170 -630,-170 -630,-175 -800,-175 -800,175 -750,175 -750,185 -700,185 -700,175 -25,175 -25,185 25,185 25,175 700,175 700,185 750,185 750,175 800,175 800,-175 615,-175 600,-155 580,-155 ; -480,-125 -750,-125 -750,125 750,125 750,-125 580,-125 ; -480,-125 -420,-125 ; -420,-155 -420,-135 -420,-125 ; -420,-155 -400,-155 -385,-175 -80,-175 ; -420,-125 -80,-125 ; -80,-175 80,-175 ; -80,-175 -80,-135 -80,-125 ; -80,-125 -80,-95 80,-95 80,-125 ; 80,-175 485,-175 500,-155 520,-155 ; 80,-175 80,-135 80,-125 ; 80,-125 520,-125 ; 520,-155 520,-135 520,-125 ; 520,-155 580,-155 ; 520,-125 580,-125 ; 580,-155 580,-135 580,-125
  text "1" at -700,-75 h77.5
  text "2" at -700,25 h77.5
  text "26" at -40,-160 h77.5
Mechanical 16:
  rectangle: 590,40 610,60
  rectangle: 590,-60 610,-40
  rectangle: 490,40 510,60
  rectangle: 90,40 110,60
  rectangle: 90,-60 110,-40
  rectangle: 490,-60 510,-40
  rectangle: -510,40 -490,60
  rectangle: -610,40 -590,60
  rectangle: -410,40 -390,60
  rectangle: -10,40 10,60
  rectangle: -110,40 -90,60
  rectangle: -510,-60 -490,-40
  rectangle: -610,-60 -590,-40
  rectangle: -410,-60 -390,-40
  rectangle: -10,-60 10,-40
  rectangle: -110,-60 -90,-40
  rectangle: -310,-60 -290,-40
  rectangle: -310,40 -290,60
  rectangle: 390,40 410,60
  rectangle: 390,-60 410,-40
  rectangle: -210,40 -190,60
  rectangle: -210,-60 -190,-40
  rectangle: 190,40 210,60
  rectangle: 290,40 310,60
  rectangle: 190,-60 210,-40
  rectangle: 290,-60 310,-40

## ML26L [mil]
pads (26):
  oct 54x54 hole 36: 1(-600,-50) 2(-600,50) 3(-500,-50) 4(-500,50) 5(-400,-50) 6(-400,50) 7(-300,-50) 8(-300,50) 9(-200,-50) 10(-200,50) 11(-100,-50) 12(-100,50) 13(0,-50) 14(0,50) 15(100,-50) 16(100,50) 17(200,-50) 18(200,50) 19(300,-50) 20(300,50) 21(400,-50) 22(400,50) 23(500,-50) 24(500,50) 25(600,-50) 26(600,50)
Top Overlay:
  rectangle: -645,380 -555,400
  rectangle: -635,360 -565,380
  rectangle: -625,340 -575,360
  rectangle: -615,320 -585,340
  rectangle: -605,310 -595,320
  rectangle: -10,175 10,405
  rectangle: -610,-15 -590,15
  rectangle: -510,-15 -490,15
  rectangle: -410,-15 -390,15
  rectangle: -310,-15 -290,15
  rectangle: -210,-15 -190,15
  rectangle: -110,-15 -90,15
  rectangle: -10,-15 10,15
  rectangle: 90,-15 110,15
  rectangle: 190,-15 210,15
  rectangle: 290,-15 310,15
  rectangle: 390,-15 410,15
  rectangle: 490,-15 510,15
  rectangle: 590,-15 610,15
  lines w5: -625,80 -715,80 ; -575,80 -535,80 ; -525,80 -535,80 ; -475,80 -425,80 ; -375,80 -365,80 ; -325,80 -365,80 ; -275,80 -225,80 ; -175,80 -125,80 ; -75,80 -25,80 ; 25,80 75,80 ; 125,80 175,80 ; 225,80 275,80 ; 325,80 375,80 ; 425,80 465,80 ; 475,80 465,80 ; 510,430 510,390 590,390 590,430 ; 525,80 580,80 ; 625,80 635,80 ; -755,80 -800,80 -800,430 -535,430 ; -755,80 -715,80 ; -755,80 -755,55 -715,55 -715,80 ; -535,80 -535,145 ; -535,145 -535,430 ; -535,145 -480,145 -480,175 ; -535,430 -490,430 ; -490,430 -490,390 -410,390 -410,430 ; -490,430 -410,430 ; -480,175 -420,175 ; -480,175 -480,235 cw(c-450,235) -420,235 -420,175 ; -420,175 -420,145 -365,145 ; -410,430 -365,430 ; -365,80 -365,145 ; -365,145 -365,430 ; -365,430 -85,430 ; -85,175 -85,430 ; -85,175 85,175 ; -85,175 -85,135 85,135 85,175 ; -85,430 85,430 ; 85,175 85,430 ; 85,430 465,430 ; 465,80 465,145 ; 465,145 520,145 520,175 ; 465,145 465,430 ; 465,430 635,430 ; 520,175 520,235 cw(c550,235) 580,235 580,175 ; 520,175 580,175 ; 580,175 580,145 635,145 ; 635,80 635,145 ; 635,80 715,80 ; 635,145 635,430 ; 635,430 800,430 800,80 755,80 ; 715,80 755,80 ; 715,80 715,55 755,55 755,80 ; 665,170 775,170 775,320 665,320 665,170
  lines w10: -650,400 -550,400 -600,300 -650,400
  lines w20: 0,395 0,405
  text "1" at -682,-71 h77.5
  text "2" at -683,19 h77.5
  text "26" at 750,195 h93
Mechanical 16:
  rectangle: -610,15 -590,80
  rectangle: -610,-60 -590,-15
  rectangle: -510,15 -490,80
  rectangle: -510,-60 -490,-15
  rectangle: -410,15 -390,80
  rectangle: -410,-60 -390,-15
  rectangle: -310,15 -290,80
  rectangle: -310,-60 -290,-15
  rectangle: -210,15 -190,80
  rectangle: -210,-60 -190,-15
  rectangle: -110,15 -90,80
  rectangle: -110,-60 -90,-15
  rectangle: -10,15 10,80
  rectangle: -10,-60 10,-15
  rectangle: 90,15 110,80
  rectangle: 90,-60 110,-15
  rectangle: 190,15 210,80
  rectangle: 190,-60 210,-15
  rectangle: 290,15 310,80
  rectangle: 290,-60 310,-15
  rectangle: 390,15 410,80
  rectangle: 390,-60 410,-15
  rectangle: 490,15 510,80
  rectangle: 490,-60 510,-15
  rectangle: 590,15 610,80
  rectangle: 590,-60 610,-15
  lines w5: -625,80 -575,80 ; -525,80 -475,80 ; -425,80 -375,80 ; -325,80 -275,80 ; -225,80 -175,80 ; -125,80 -75,80 ; -25,80 25,80 ; 75,80 125,80 ; 175,80 225,80 ; 275,80 325,80 ; 375,80 425,80 ; 475,80 525,80 ; 575,80 625,80